# Altium footprint library Diode.PcbLib: 40 footprints (part 3 of 3)
Each footprint in its own frame and in the unit in brackets; x right, y up, seen from the top. Pads: shape width x height; smd on the part's side, far side on the other; paste and mask are expansions set on the pad; w line width, h text height; cw(c..) or ccw(c..) is an arc to the next point about the centre after c.
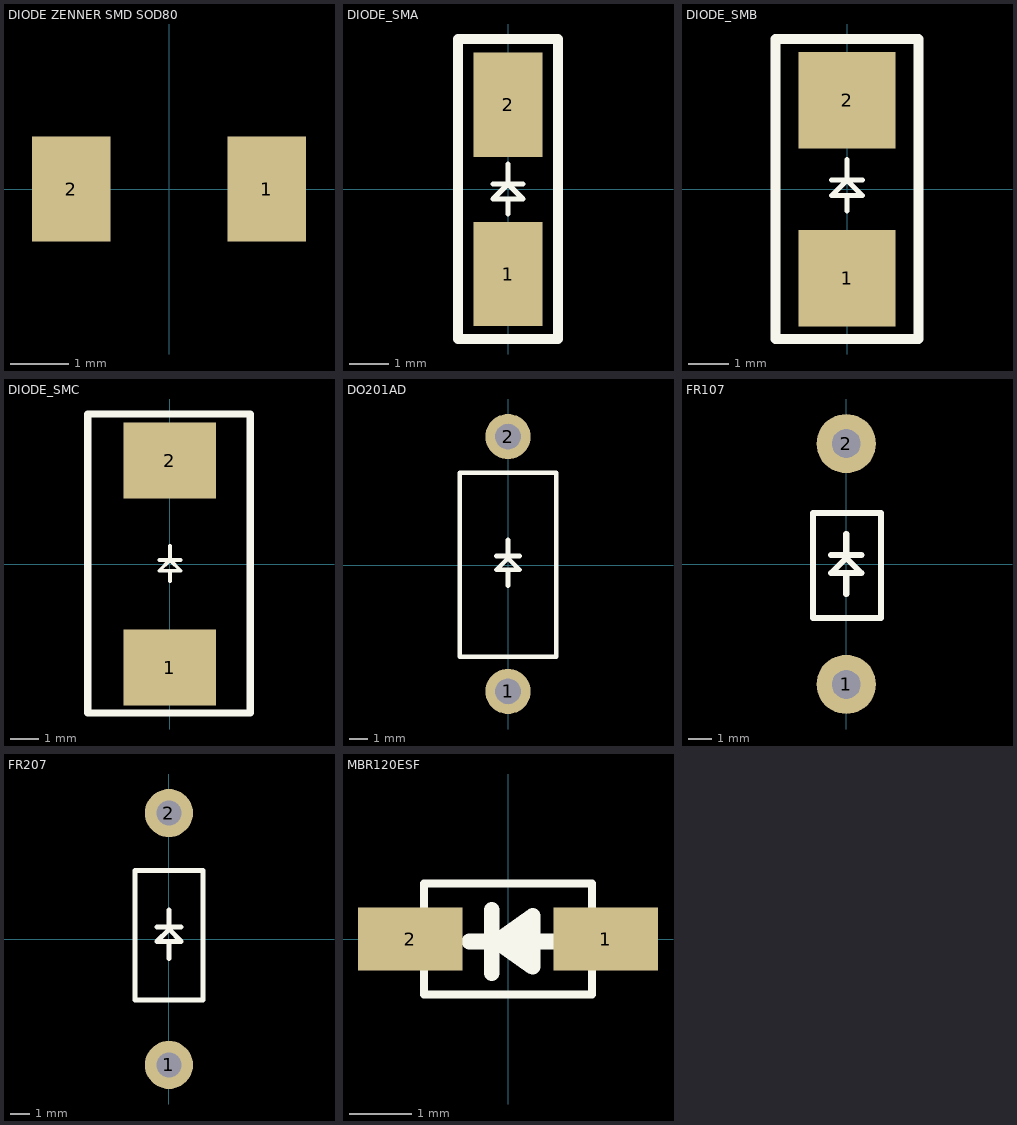
[diagram p2: the footprints below, top view; thin cyan lines are the x and y axes]

## DIODE ZENNER SMD SOD80 [mm] "SOD80"
pads (2):
  rect 1.35x1.8 smd: 1(1.675,0) 2(-1.675,0)
3D body "User Library-Diode MELF.step": height 1.45, standoff -0.05, extent -1.75,-0.762 1.75,0.738

## DIODE_SMA [mm] "Diode SMA"
pads (2):
  rect 1.75x2.65 smd: 1(0,-2.15) 2(0,2.15)
Top Overlay:
  lines w0.127: -0.381,0.136 0.381,0.136 ; 0,-0.626 0,-0.245 ; 0,0.644 0,0.136 ; 0,-0.245 0.381,-0.245 0,0.136 ; 0,-0.245 -0.381,-0.245 0,0.136
  lines w0.254: -1.27,-3.801 1.27,-3.801 1.27,3.819 -1.27,3.819 -1.27,-3.801
3D body "SMA.step": height 2.2, standoff 0, extent -1.302,-2.598 1.302,2.598

## DIODE_SMB [mil] "Diode SMB"
pads (2):
  rect 94.5x94.5 smd: 1(0,-87) 2(0,87)
Top Overlay:
  lines w5: -15,8.82 15,8.82 ; 0,-21.18 0,-6.18 ; 0,28.82 0,8.82 ; 0,-6.18 15,-6.18 0,8.82 ; 0,-6.18 -15,-6.18 0,8.82
  lines w10: -70,-146.5 -70,146.81 70,146.81 70,-146.5 -70,-146.5
3D body "SMB.step": height 86.81, standoff 0, extent -71.26,-104.23 71.26,104.23

## DIODE_SMC [mm] "Diode SMC"
pads (2):
  rect 3.3x2.7 smd: 1(0,-3.686) 2(0,3.686)
Top Overlay:
  lines w0.127: -0.372,0.147 0.39,0.147 ; 0.009,-0.615 0.009,-0.234 ; 0.009,0.655 0.009,0.147 ; 0.009,-0.234 -0.372,-0.234 0.009,0.147 ; 0.009,-0.234 0.39,-0.234 0.009,0.147
  lines w0.254: -2.921,-5.305 -2.921,5.345 2.867,5.345 2.867,-5.305 -2.921,-5.305
3D body "SMC.step": height 2.27, standoff 0, extent -2.953,-3.97 2.953,3.97

## DO201AD [mm] "DO201AD"
pads (2):
  round 2.5 hole 1.4 slot 1.405 at 90 deg: 1(0,-6.985) 2(0,7.112)
Top Overlay:
  lines w0.254: -0.635,0.508 0.635,0.508 ; 0,-1.143 0,-0.254 ; 0,0.508 0,1.397 ; 0,-0.254 0.635,-0.254 0,0.381 -0.635,-0.254 0,-0.254 ; -2.667,-5.057 2.667,-5.057 2.667,5.103 -2.667,5.103 -2.667,-5.057
3D body "DO-201AD.stp": height 5.65, standoff -3.66, extent -2.642,-7.727 2.642,7.727

## FR107 [mm] "Diode Gen Purp 1000V 1A DO41"
pads (2):
  round 2.5 hole 1.2 slot 1.205 at 90 deg: 1(0,-5.08) 2(0,5.08)
Top Overlay:
  lines w0.254: -0.635,0.381 0.635,0.381 ; 0,-1.27 0,-0.381 ; 0,0.381 0,1.27 ; 0,-0.381 0.635,-0.381 0,0.254 -0.635,-0.381 0,-0.381 ; -1.397,-2.286 -1.397,2.159 1.46,2.159 1.46,-2.286 -1.397,-2.286
3D body "FR107.STEP": height 2.68, standoff -21.77, extent -1.346,-5.474 1.346,5.474

## FR207 [mm] "Diode Gen Purp 1000V 2A DO15"
pads (2):
  round 2.5 hole 1.3: 1(0,-6.54) 2(0,6.54)
Top Overlay:
  lines w0.254: -0.628,0.632 0.642,0.632 ; 0.007,-1.019 0.007,-0.13 ; 0.007,0.632 0.007,1.521 ; 0.007,-0.13 0.642,-0.13 0.007,0.505 -0.628,-0.13 0.007,-0.13 ; -1.771,-3.178 1.778,-3.178 1.778,3.553 -1.771,3.553 -1.771,-3.178
3D body "FR207.STEP": height 3.6, standoff -17.1, extent -1.793,-6.903 1.807,6.897

## MBR120ESF [mm]
pads (2):
  rect 1.68x1.01 smd: 1(1.57,0) 2(-1.57,0)
Top Overlay:
  region: 0.399,-0.445 0.399,0.367 -0.186,-0.039
  lines w0.127: -1.35,-0.889 1.35,-0.889 1.35,0.889 -1.35,0.889 -1.35,-0.889
  lines w0.254: -0.618,-0.039 -0.288,-0.039 ; -0.262,-0.547 -0.262,0.469 ; 0.399,-0.039 0.712,-0.039 ; -0.186,-0.039 0.399,0.367 0.399,-0.445 -0.186,-0.039
3D body "step_temp.STEP": height 1.27, standoff -0.03, extent -1.831,-0.902 1.869,0.898